# Altium footprint library Nexperia.PcbLib: 7 footprints
Each footprint in its own frame and in the unit in brackets; x right, y up, seen from the top. Pads: shape width x height; smd on the part's side, far side on the other; paste and mask are expansions set on the pad; w line width, h text height; cw(c..) or ccw(c..) is an arc to the next point about the centre after c.
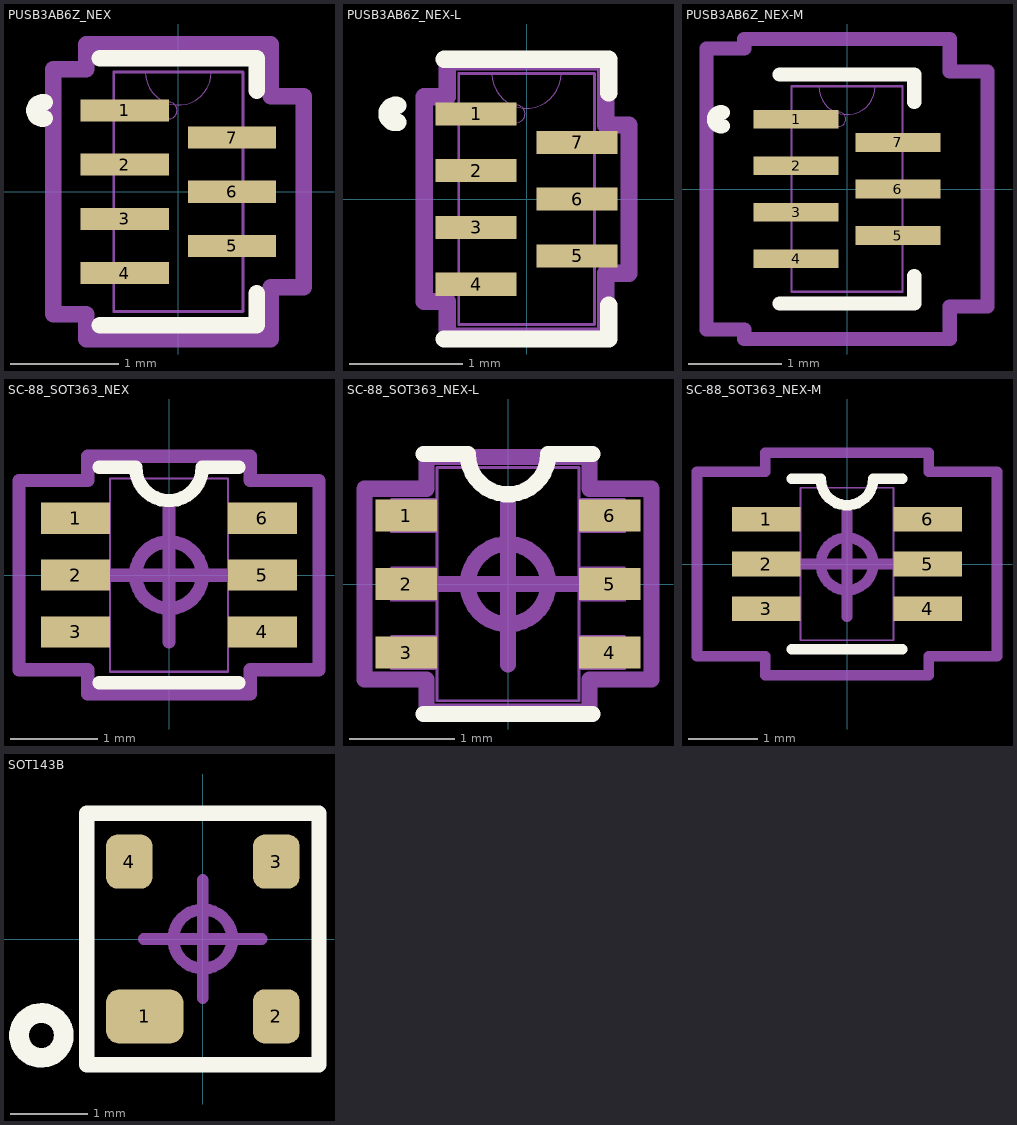
[diagram p0: the footprints below, top view; thin cyan lines are the x and y axes]

## PUSB3AB6Z_NEX [mil]
pads (7):
  rect 32x8 smd: 1(-19.5,29.53) 2(-19.5,9.84) 3(-19.5,-9.84) 4(-19.5,-29.53) 5(19.5,-19.69) 6(19.5,0) 7(19.5,19.69)
Top Overlay:
  lines w6: -48.6,26.62 cw(c-49.34,29.53) -48.6,32.43 ; -28.5,-48.5 28.5,-48.5 28.5,-36.79 ; -28.5,48.5 28.5,48.5 28.5,36.79
Mechanical 13:
  circle w0: c-3.5,29.53 r3
  lines w0: -12,43.5 ccw(c0,43.5) 12,43.5
  lines w1: -23.5,-43.5 -23.5,43.5 23.5,43.5 23.5,-43.5 -23.5,-43.5
Mechanical 15:
  lines w6: -45.5,-44.53 -45.5,44.53 -33.5,44.53 -33.5,53.5 33.5,53.5 33.5,34.69 45.5,34.69 45.5,-34.69 33.5,-34.69 33.5,-53.5 -33.5,-53.5 -33.5,-44.53 -45.5,-44.53
3D body "PUSB3AB6Z_NEX.step": height 20.12, standoff 0, extent -23.5,-43.5 23.5,43.5

## PUSB3AB6Z_NEX-L [mil]
pads (7):
  rect 28x8 smd: 1(-17.5,29.53) 2(-17.5,9.84) 3(-17.5,-9.84) 4(-17.5,-29.53) 5(17.5,-19.69) 6(17.5,0) 7(17.5,19.69)
Top Overlay:
  lines w6: -44.6,26.62 cw(c-45.34,29.53) -44.6,32.43 ; -28.5,-48.5 28.5,-48.5 28.5,-36.79 ; -28.5,48.5 28.5,48.5 28.5,36.79
Mechanical 13:
  circle w0: c-3.5,29.53 r3
  lines w0: -12,43.5 ccw(c0,43.5) 12,43.5
  lines w1: -23.5,-43.5 -23.5,43.5 23.5,43.5 23.5,-43.5 -23.5,-43.5
Mechanical 15:
  lines w6: -35.5,-35.53 -35.5,35.53 -27.5,35.53 -27.5,47.5 27.5,47.5 27.5,25.69 35.5,25.69 35.5,-25.69 27.5,-25.69 27.5,-47.5 -27.5,-47.5 -27.5,-35.53 -35.5,-35.53
3D body "PUSB3AB6Z_NEX.step": height 20.12, standoff 0, extent -23.5,-43.5 23.5,43.5

## PUSB3AB6Z_NEX-M [mil]
pads (7):
  rect 36x8 smd: 1(-21.5,29.53) 2(-21.5,9.84) 3(-21.5,-9.84) 4(-21.5,-29.53) 5(21.5,-19.69) 6(21.5,0) 7(21.5,19.69)
Top Overlay:
  lines w6: -52.6,26.62 cw(c-53.34,29.53) -52.6,32.43 ; -28.5,-48.5 28.5,-48.5 28.5,-36.79 ; -28.5,48.5 28.5,48.5 28.5,36.79
Mechanical 13:
  circle w0: c-3.5,29.53 r3
  lines w0: -12,43.5 ccw(c0,43.5) 12,43.5
  lines w1: -23.5,-43.5 -23.5,43.5 23.5,43.5 23.5,-43.5 -23.5,-43.5
Mechanical 15:
  lines w6: -59.5,-59.53 -59.5,59.53 -43.5,59.53 -43.5,63.5 43.5,63.5 43.5,49.69 59.5,49.69 59.5,-49.69 43.5,-49.69 43.5,-63.5 -43.5,-63.5 -43.5,-59.53 -59.5,-59.53
3D body "PUSB3AB6Z_NEX.step": height 20.12, standoff 0, extent -23.5,-43.5 23.5,43.5

## SC-88_SOT363_NEX [mil]
height 43.31
pads (6):
  rect 31x14 smd: 1(-42,25.59) 2(-42,0) 3(-42,-25.59) 4(42,-25.59) 5(42,0) 6(42,25.59)
Top Overlay:
  lines w6: -31.5,-48.5 31.5,-48.5 ; -31.5,48.5 -15,48.5 ccw(c0,48.5) 15,48.5 31.5,48.5
Mechanical 13:
  lines w0: -12,43.5 ccw(c0,43.5) 12,43.5
  lines w1: -43.5,-31.59 -43.5,-19.59 -26.5,-19.59 -26.5,-31.59 -43.5,-31.59 ; -43.5,-6 -43.5,6 -26.5,6 -26.5,-6 -43.5,-6 ; -43.5,19.59 -43.5,31.59 -26.5,31.59 -26.5,19.59 -43.5,19.59 ; -26.5,-43.5 26.5,-43.5 26.5,43.5 -26.5,43.5 -26.5,-43.5 ; 26.5,-31.59 26.5,-19.59 43.5,-19.59 43.5,-31.59 26.5,-31.59 ; 26.5,-6 26.5,6 43.5,6 43.5,-6 26.5,-6 ; 26.5,19.59 26.5,31.59 43.5,31.59 43.5,19.59 26.5,19.59
Mechanical 15:
  circle w6: c0,0 r15
  lines w6: -30,0 30,0 ; 0,-30 0,30 ; -67.5,-42.59 -67.5,42.59 -36.5,42.59 -36.5,53.5 36.5,53.5 36.5,42.59 67.5,42.59 67.5,-42.59 36.5,-42.59 36.5,-53.5 -36.5,-53.5 -36.5,-42.59 -67.5,-42.59
3D body "SC-88_SOT363_NEX.step": height 43.11, standoff 0, extent -43.5,-43.5 43.51,43.51

## SC-88_SOT363_NEX-L [mil]
height 43.31
pads (6):
  rect 23x12 smd: 1(-38,25.59) 2(-38,0) 3(-38,-25.59) 4(38,-25.59) 5(38,0) 6(38,25.59)
Top Overlay:
  lines w6: -31.5,-48.5 31.5,-48.5 ; -31.5,48.5 -15,48.5 ccw(c0,48.5) 15,48.5 31.5,48.5
Mechanical 13:
  lines w0: -12,43.5 ccw(c0,43.5) 12,43.5
  lines w1: -43.5,-31.59 -26.5,-31.59 -26.5,-19.59 -43.5,-19.59 -43.5,-31.59 ; -43.5,-6 -26.5,-6 -26.5,6 -43.5,6 -43.5,-6 ; -43.5,19.59 -26.5,19.59 -26.5,31.59 -43.5,31.59 -43.5,19.59 ; -26.5,-43.5 -26.5,43.5 26.5,43.5 26.5,-43.5 -26.5,-43.5 ; 26.5,-31.59 43.5,-31.59 43.5,-19.59 26.5,-19.59 26.5,-31.59 ; 26.5,-6 43.5,-6 43.5,6 26.5,6 26.5,-6 ; 26.5,19.59 43.5,19.59 43.5,31.59 26.5,31.59 26.5,19.59
Mechanical 15:
  circle w6: c0,0 r15
  lines w6: -30,0 30,0 ; 0,-30 0,30 ; -53.5,-35.59 -30.5,-35.59 -30.5,-47.5 30.5,-47.5 30.5,-35.59 53.5,-35.59 53.5,35.59 30.5,35.59 30.5,47.5 -30.5,47.5 -30.5,35.59 -53.5,35.59 -53.5,-35.59
3D body "SC-88_SOT363_NEX.step": height 43.11, standoff 0, extent -43.5,-43.5 43.5,43.5

## SC-88_SOT363_NEX-M [mil]
height 43.31
pads (6):
  rect 39x14 smd: 1(-46,25.59) 2(-46,0) 3(-46,-25.59) 4(46,-25.59) 5(46,0) 6(46,25.59)
Top Overlay:
  lines w6: -31.5,-48.5 31.5,-48.5 ; -31.5,48.5 -15,48.5 ccw(c0,48.5) 15,48.5 31.5,48.5
Mechanical 13:
  lines w0: -12,43.5 ccw(c0,43.5) 12,43.5
  lines w1: -43.5,-31.59 -43.5,-19.59 -26.5,-19.59 -26.5,-31.59 -43.5,-31.59 ; -43.5,-6 -43.5,6 -26.5,6 -26.5,-6 -43.5,-6 ; -43.5,19.59 -43.5,31.59 -26.5,31.59 -26.5,19.59 -43.5,19.59 ; -26.5,-43.5 26.5,-43.5 26.5,43.5 -26.5,43.5 -26.5,-43.5 ; 26.5,-31.59 26.5,-19.59 43.5,-19.59 43.5,-31.59 26.5,-31.59 ; 26.5,-6 26.5,6 43.5,6 43.5,-6 26.5,-6 ; 26.5,19.59 26.5,31.59 43.5,31.59 43.5,19.59 26.5,19.59
Mechanical 15:
  circle w6: c0,0 r15
  lines w6: -30,0 30,0 ; 0,-30 0,30 ; -85.5,-52.59 -85.5,52.59 -46.5,52.59 -46.5,63.5 46.5,63.5 46.5,52.59 85.5,52.59 85.5,-52.59 46.5,-52.59 46.5,-63.5 -46.5,-63.5 -46.5,-52.59 -85.5,-52.59
3D body "SC-88_SOT363_NEX.step": height 43.11, standoff 0, extent -43.5,-43.5 43.5,43.5

## SOT143B [mm]
pads (4):
  rrect50% 1x0.7 smd: 1(-0.75,-1)
  rrect50% 0.6x0.7 smd: 2(0.95,-1) 3(0.95,1) 4(-0.95,1)
Top Overlay:
  circle w0.254: c-2.083,-1.245 r0.29
  lines w0.2: -1.5,-1.625 -1.5,1.625 1.5,1.625 1.5,-1.625 -1.5,-1.625
Mechanical 15:
  circle w0.152: c0,0 r0.381
  lines w0.152: -0.762,0 0.762,0 ; 0,-0.762 0,0.762
3D body "SOT143B.step": height 0.91, standoff -0.04, extent -1.45,-1.207 1.45,1.194